# Altium schematic symbol library AP7361E-33FGE-7.SchLib: 1 symbol
Pins are listed as number, name and electrical type; pins without a type are passive.

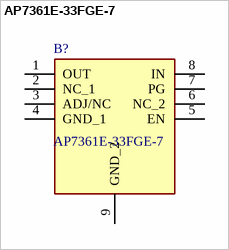
[diagram p0: symbol AP7361E-33FGE-7]

## AP7361E-33FGE-7
designator B?
Wide Input Voltage Range: 2.2V to 6.0V  Output Voltage Accuracy: +/-1%  Very Low Dropout Voltage (3.3V): 360mV at 1A Typical  Low Quiescent Current (IQ): 60A Typical  Adjustable Output Voltage Range: 0.8V to 5.0V  Fixed Output Options: 1.0V, 1.2V, 1.5V, 1.8V, 2.5V, 2.8V and 3.3V  High PSRR: 75dB @ 1kHz  Current Limit: 1.5A  Fold-Back Short Circuit Protection: 400mA  Power-Good (PG) Output for Supply Monitoring and for Sequencing of Other Supplies; Manufacturer_Name: Diodes Incorporated; Geometry.Height: 0.63mm; Mouser Part Number: 621-AP7361E-33FGE-7; Mouser Price/Stock: https://www.mouser.co.uk/ProductDetail/Diodes-Incorporated/AP7361E-33FGE-7?qs=hd1VzrDQEGjeYIMlU6aeYw%3D%3D; Manufacturer_Part_Number: AP7361E-33FGE-7; Datasheet Link: https://www.diodes.com/datasheet/download/AP7361E.pdf
footprint SON65P300X300X63-9N
pins: 1 OUT, 2 NC_1, 3 ADJ/NC, 4 GND_1, 5 EN, 6 NC_2, 7 PG, 8 IN, 9 GND_2